# EAGLE library part SI5443DC (library diode-20CJQ030)
Vishay Siliconix's Si5443DC P-Channel 2.5-V (G-S) MOSFET Please send any comments to: messi@users.sourceforge.net
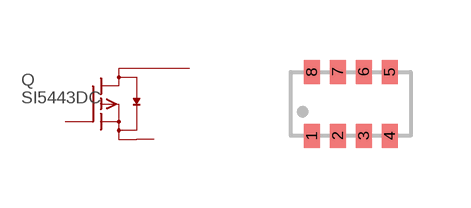
[diagram p76: symbol with the pads of 1206-8_CHIPFET; footprint 1206-8_CHIPFET]

Designator prefix Q

## SI5443DC  [1206-8_CHIPFET]
1  D  pas
2  D  pas
3  D  pas
4  G  pas
5  S  pas
6  D  pas
7  D  pas
8  D  pas

## Footprint 1206-8_CHIPFET (pad centres in mm)
Used in Si5443DC
smd 0.4 x 0.6: 1 -0.975,-0.8; 2 -0.325,-0.8; 3 0.325,-0.8; 4 0.975,-0.8; 5 0.975,0.8; 6 0.325,0.8; 7 -0.325,0.8; 8 -0.975,0.8